# Altium schematic symbol library MountingHoleM2.SchLib: 1 symbol
Pins are listed as number, name and electrical type; pins without a type are passive.

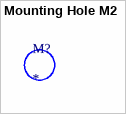
[diagram p0: symbol Mounting Hole M2]

## Mounting Hole M2
designator M?
footprint Mounting Hole M2